# Altium footprint library pyboard.PCBLIB: 10 footprints
Each footprint in its own frame and in the unit in brackets; x right, y up, seen from the top. Pads: shape width x height; smd on the part's side, far side on the other; paste and mask are expansions set on the pad; w line width, h text height; cw(c..) or ccw(c..) is an arc to the next point about the centre after c.
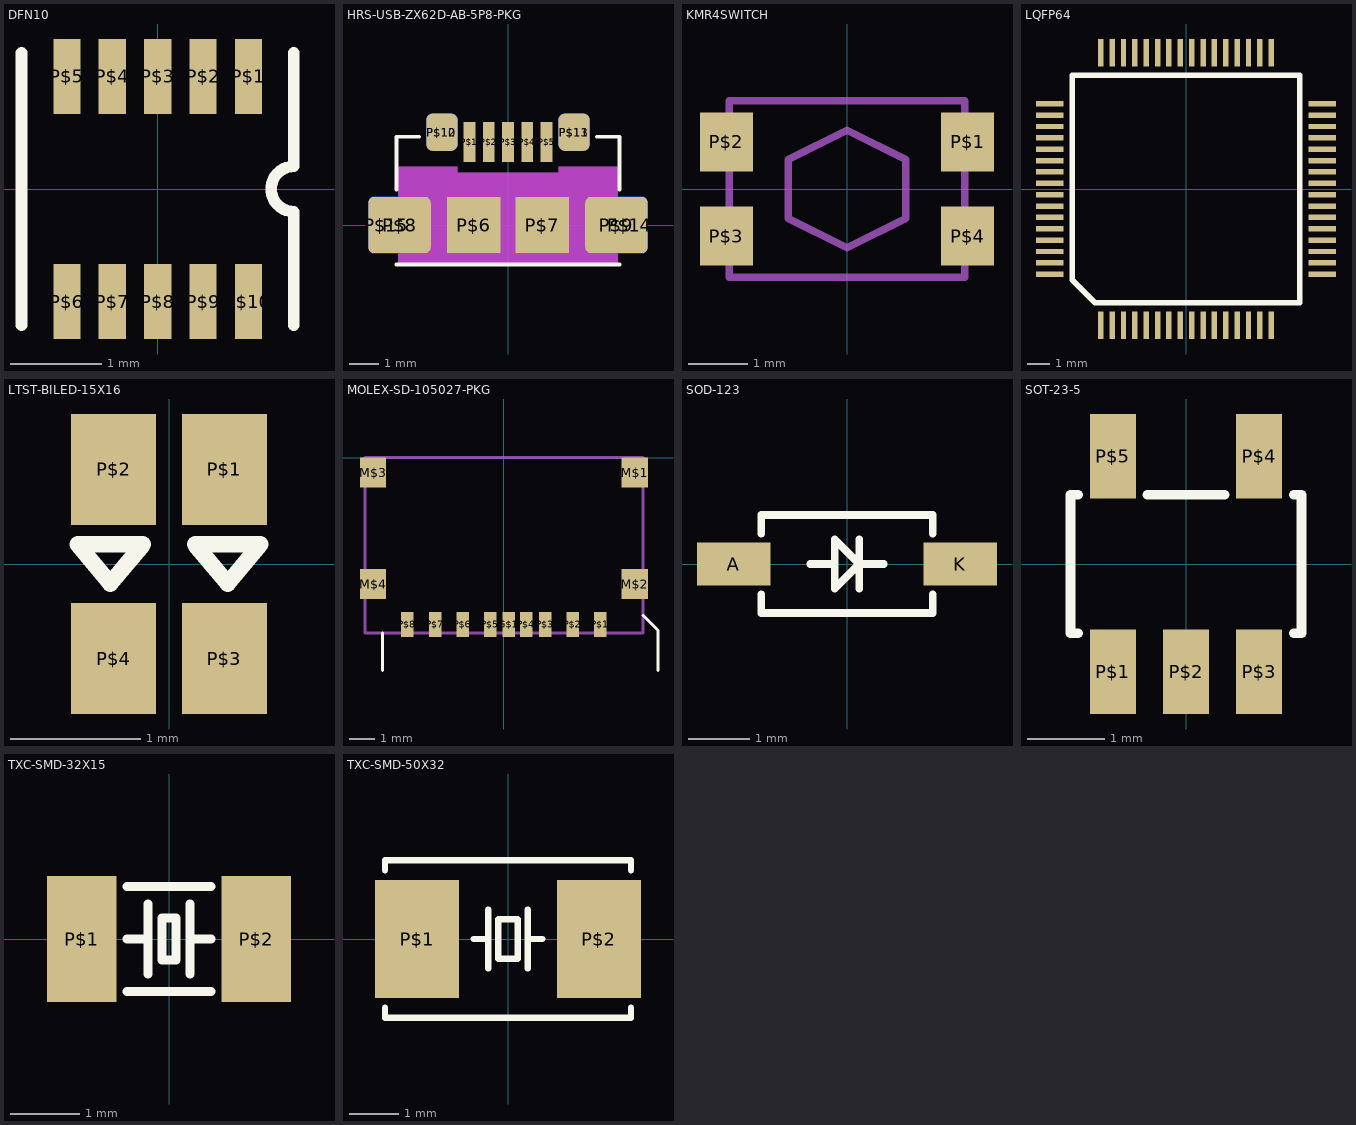
[diagram p0: the footprints below, top view; thin cyan lines are the x and y axes]

## DFN10 [mm]
pads (10):
  rect 0.3x0.825 smd: P$1(1,1.24) P$2(0.5,1.24) P$3(0,1.24) P$4(-0.5,1.24) P$5(-1,1.24) P$6(-1,-1.24) P$7(-0.5,-1.24) P$8(0,-1.24) P$9(0.5,-1.24) P$10(1,-1.24)
Top Overlay:
  lines w0.127: -1.5,-1.5 -1.5,1.5 ; 1.5,-1.5 1.5,-0.25 cw(c1.5,0) 1.5,0.25 1.5,1.5

## HRS-USB-ZX62D-AB-5P8-PKG [mm]
pads (15):
  rect 0.4x1.35 smd: P$1(-1.3,2.8) P$2(-0.65,2.8) P$3(0,2.8) P$4(0.65,2.8) P$5(1.3,2.8)
  rect 1.8x1.9 smd: P$6(-1.15,0) P$7(1.15,0)
  rrect20% 2.1x1.9 smd: P$8(-3.65,0) P$9(3.65,0)
  rrect40% 1.05x1.25 smd: P$10(-2.225,3.125) P$11(2.225,3.125)
  rrect40% 1.05x1.25 smd far side: P$12(-2.225,3.125) P$13(2.225,3.125)
  rrect31% 1.2x1.9 smd far side: P$14(4.1,0) P$15(-4.1,0)
Top Overlay:
  lines w0.127: -3.75,-1.325 3.75,-1.325 ; -3.75,1.2 -3.75,2.975 -3,2.975 ; 3,2.975 3.75,2.975 3.75,1.2
Mechanical 8 keep-out:
  rectangle: -3.7,-1.325 3.7,1.775
  rectangle: -3.7,1.775 -1.7,1.975
  rectangle: 1.7,1.775 3.7,1.975
Mechanical 11:
  lines w0.127: -4.5,-0.45 -4.5,0.45 cw(c-4.2,0.45) -4.2,0.75 -3.975,0.75 cw(c-3.975,0.45) -3.675,0.45 -3.675,-0.45 cw(c-3.975,-0.45) -3.975,-0.75 -4.2,-0.75 cw(c-4.2,-0.45) -4.5,-0.45 ; -2.55,2.95 -2.55,3.3 cw(c-2.3,3.3) -2.3,3.55 -2.15,3.55 cw(c-2.15,3.3) -1.9,3.3 -1.9,2.95 cw(c-2.15,2.95) -2.15,2.7 -2.3,2.7 cw(c-2.3,2.95) -2.55,2.95 ; 1.9,2.95 1.9,3.3 cw(c2.15,3.3) 2.15,3.55 2.3,3.55 cw(c2.3,3.3) 2.55,3.3 2.55,2.95 cw(c2.3,2.95) 2.3,2.7 2.15,2.7 cw(c2.15,2.95) 1.9,2.95 ; 3.675,-0.45 3.675,0.45 cw(c3.975,0.45) 3.975,0.75 4.2,0.75 cw(c4.2,0.45) 4.5,0.45 4.5,-0.45 cw(c4.2,-0.45) 4.2,-0.75 3.975,-0.75 cw(c3.975,-0.45) 3.675,-0.45

## KMR4SWITCH [mm]
pads (4):
  rect 0.9x1 smd: P$1(2.05,0.8) P$2(-2.05,0.8) P$3(-2.05,-0.8) P$4(2.05,-0.8)
Mechanical 16:
  lines w0.127: -2,-1.5 2,-1.5 2,1.5 -2,1.5 -2,-1.5 ; -1,-0.5 -1,0.5 0,1 1,0.5 1,-0.5 0,-1 -1,-0.5

## LQFP64 [mm]
pads (64):
  rect 0.24x1.2 smd: 1(-3.75,-6) 2(-3.25,-6) 3(-2.75,-6) 4(-2.25,-6) 5(-1.75,-6) 6(-1.25,-6) 7(-0.75,-6) 8(-0.25,-6) 9(0.25,-6) 10(0.75,-6) 11(1.25,-6) 12(1.75,-6) 13(2.25,-6) 14(2.75,-6) 15(3.25,-6) 16(3.75,-6) 33(3.75,6) 34(3.25,6) 35(2.75,6) 36(2.25,6) 37(1.75,6) 38(1.25,6) 39(0.75,6) 40(0.25,6) 41(-0.25,6) 42(-0.75,6) 43(-1.25,6) 44(-1.75,6) 45(-2.25,6) 46(-2.75,6) 47(-3.25,6) 48(-3.75,6)
  rect 1.2x0.24 smd: 17(6,-3.75) 18(6,-3.25) 19(6,-2.75) 20(6,-2.25) 21(6,-1.75) 22(6,-1.25) 23(6,-0.75) 24(6,-0.25) 25(6,0.25) 26(6,0.75) 27(6,1.25) 28(6,1.75) 29(6,2.25) 30(6,2.75) 31(6,3.25) 32(6,3.75) 49(-6,3.75) 50(-6,3.25) 51(-6,2.75) 52(-6,2.25) 53(-6,1.75) 54(-6,1.25) 55(-6,0.75) 56(-6,0.25) 57(-6,-0.25) 58(-6,-0.75) 59(-6,-1.25) 60(-6,-1.75) 61(-6,-2.25) 62(-6,-2.75) 63(-6,-3.25) 64(-6,-3.75)
Top Overlay:
  lines w0.254: -5,-4 -5,5 5,5 5,-5 -4,-5 -5,-4

## LTST-BILED-15X16 [mm]
pads (4):
  rect 0.65x0.85 smd: P$1(0.425,0.725) P$2(-0.425,0.725) P$3(0.425,-0.725) P$4(-0.425,-0.725)
Top Overlay:
  lines w0.127: -0.7,0.15 -0.2,0.15 -0.45,-0.15 -0.7,0.15 ; 0.2,0.15 0.7,0.15 0.45,-0.15 0.2,0.15

## MOLEX-SD-105027-PKG [mm]
pads (13):
  rect 0.5x1 smd: G$1(0.2,-6.66) P$1(3.85,-6.66) P$2(2.75,-6.66) P$3(1.65,-6.66) P$4(0.9,-6.66) P$5(-0.55,-6.66) P$6(-1.65,-6.66) P$7(-2.75,-6.66) P$8(-3.85,-6.66)
  rect 1.05x1.2 smd: M$1(5.225,-0.6) M$2(5.225,-5.05) M$3(-5.225,-0.6) M$4(-5.225,-5.05)
Top Overlay:
  lines w0.127: -4.85,-8.5 -4.85,-7 ; 5.55,-6.3 6.15,-6.9 6.15,-8.5
Mechanical 16:
  lines w0.127: -5.55,-7 -5.55,0 5.55,0 5.55,-7 -5.55,-7

## SOD-123 [mm]
pads (2):
  rect 1.2x0.7 smd: A(-1.85,0) K(1.85,0)
Top Overlay:
  lines w0.127: -1.4,-0.5 -1.4,-0.8 1.4,-0.8 1.4,-0.5 ; -1.4,0.5 -1.4,0.8 1.4,0.8 1.4,0.5 ; -0.6,0 -0.2,0 ; 0.2,-0.4 0.2,0 ; 0.2,0.4 0.2,0 ; 0.6,0 0.2,0 ; -0.2,0 -0.2,0.4 0.2,0 ; -0.2,0 -0.2,-0.4 0.2,0

## SOT-23-5 [mm]
pads (5):
  rect 0.6x1.1 smd: P$1(-0.95,-1.4) P$2(0,-1.4) P$3(0.95,-1.4) P$4(0.95,1.4) P$5(-0.95,1.4)
Top Overlay:
  lines w0.127: -1.4,-0.9 -1.5,-0.9 -1.5,0.9 -1.4,0.9 ; -0.5,0.9 0.5,0.9 ; 1.4,-0.9 1.5,-0.9 1.5,0.9 1.4,0.9

## TXC-SMD-32X15 [mm]
pads (2):
  rect 1x1.8 smd: P$1(-1.25,0) P$2(1.25,0)
Top Overlay:
  lines w0.127: -0.6,-0.75 0.6,-0.75 ; -0.6,0 -0.3,0 ; -0.6,0.75 0.6,0.75 ; -0.3,-0.5 -0.3,0 ; -0.3,0.5 -0.3,0 ; 0.3,-0.5 0.3,0 ; 0.3,0.5 0.3,0 ; 0.6,0 0.3,0 ; -0.1,-0.3 -0.1,0.3 0.1,0.3 0.1,-0.3 -0.1,-0.3

## TXC-SMD-50X32 [mm]
pads (2):
  rect 1.7x2.4 smd: P$1(-1.85,0) P$2(1.85,0)
Top Overlay:
  lines w0.127: -2.5,-1.4 -2.5,-1.6 2.5,-1.6 2.5,-1.4 ; -2.5,1.4 -2.5,1.6 2.5,1.6 2.5,1.4 ; -0.7,0 -0.4,0 ; -0.4,-0.6 -0.4,0 ; -0.4,0.6 -0.4,0 ; 0.4,-0.6 0.4,0 ; 0.4,0.6 0.4,0 ; 0.7,0 0.4,0 ; -0.2,-0.4 0.2,-0.4 0.2,0.4 -0.2,0.4 -0.2,-0.4